# EAGLE library part M20-876P_12X2 (library ben)
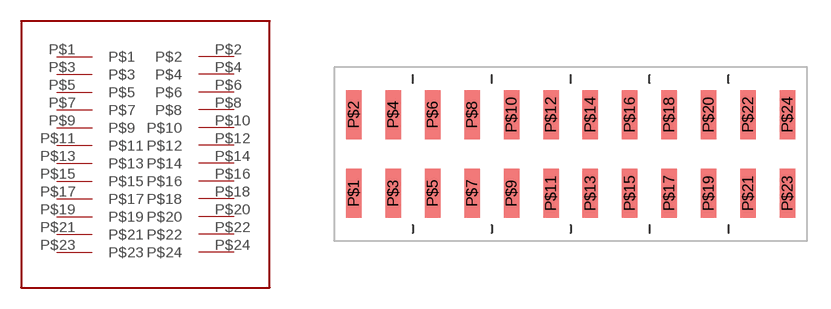
[diagram p0: symbol with the pads of M20-876P_12X2; footprint M20-876P_12X2]

Designator prefix J

## M20-876P_12X2  [M20-876P_12X2]
P$1  P$1
P$2  P$2
P$3  P$3
P$4  P$4
P$5  P$5
P$6  P$6
P$7  P$7
P$8  P$8
P$9  P$9
P$10  P$10
P$11  P$11
P$12  P$12
P$13  P$13
P$14  P$14
P$15  P$15
P$16  P$16
P$17  P$17
P$18  P$18
P$19  P$19
P$20  P$20
P$21  P$21
P$22  P$22
P$23  P$23
P$24  P$24

## Footprint M20-876P_12X2 (pad centres in mm)
smd 1 x 3.15: P$1 -13.97,-2.525; P$2 -13.97,2.525; P$3 -11.43,-2.525; P$4 -11.43,2.525; P$5 -8.89,-2.525; P$6 -8.89,2.525; P$7 -6.35,-2.525; P$8 -6.35,2.525; P$9 -3.81,-2.525; P$10 -3.81,2.525; P$11 -1.27,-2.525; P$12 -1.27,2.525; P$13 1.27,-2.525; P$14 1.27,2.525; P$15 3.81,-2.525; P$16 3.81,2.525; P$17 6.35,-2.525; P$18 6.35,2.525; P$19 8.89,-2.525; P$20 8.89,2.525; P$21 11.43,-2.525; P$22 11.43,2.525; P$23 13.97,-2.525; P$24 13.97,2.525